# Altium schematic symbol library Amplifier_Audio.SchLib: 99 symbols (part 2 of 2)
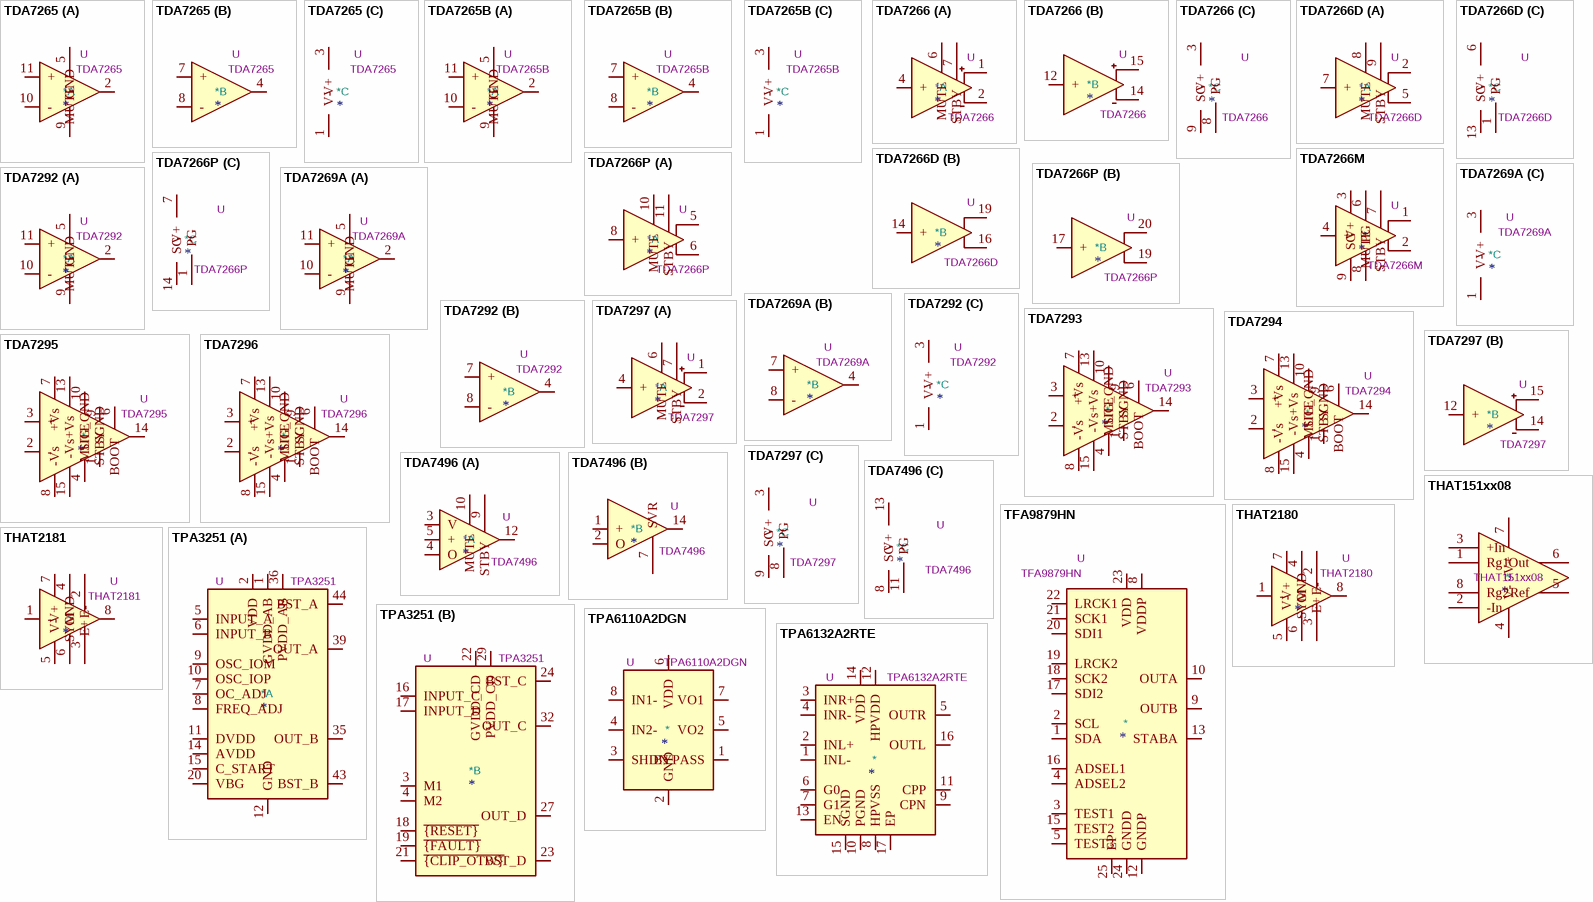
[diagram p4: symbols TDA7265 to TPA6132A2RTE]

## TPA6132A2RTE
designator *  value TPA6132A2RTE  Reference: U
ki_keywords: DirectPath audio amplifier Stereo; ki_description: 25mW, Stereo, DirectPath Audio Amplifier, WQFN-16; ki_fp_filters: WQFN*1EP*3x3mm*P0.5mm*; Footprint: Package_DFN_QFN:WQFN-16-1EP_3x3mm_P0.5mm_EP1.6x1.6mm_ThermalVias; Datasheet: https://www.ti.com/lit/ds/symlink/tpa6132a2.pdf
pins: 1 INL-, 2 INL+, 3 INR+, 4 INR-, 5 OUTR, 6 G0, 7 G1, 8 HPVSS, 9 CPN, 10 PGND, 11 CPP, 12 HPVDD, 13 EN, 14 VDD, 15 SGND, 16 OUTL, 17 EP